# Altium schematic symbol library TNPW040232K0BEED.SchLib: 1 symbol
Pins are listed as number, name and electrical type; pins without a type are passive.

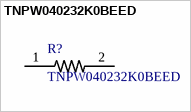
[diagram p0: symbol TNPW040232K0BEED]

## TNPW040232K0BEED
designator R?
Res Thin Film 0402 32K Ohm 0.1% 1/16W Â±25ppm/Â°C Molded SMD SMD Paper T/R; MF: Vishay Dale; Digi-Key_Purchase_URL: https://www.digikey.com/product-detail/en/vishay-dale/TNPW040232K0BEED/541-2115-1-ND/4876077?utm_source=snapeda&utm_medium=aggregator&utm_campaign=symbol; Digi-Key_Part_Number: 541-2115-1-ND; Package: 0402 Vishay Dale; SnapEDA_Link: https://www.snapeda.com/parts/TNPW040232K0BEED/Vishay%20Dale/view-part/?ref=snap; MP: TNPW040232K0BEED; Value: *
footprint RESC1005X40
pins: 1, 2